# EAGLE library part GEN_10 (library bschulz)
Generic 10 Pin Package for Breakout Boards
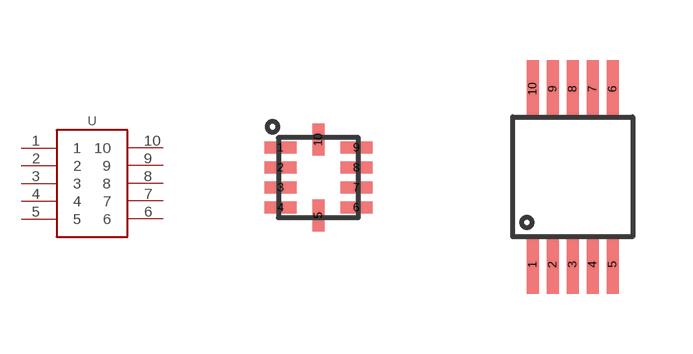
[diagram p150: symbol with the pads of QFN10_SI114X; footprints QFN10_SI114X, VSSOP_10]

Designator prefix U

## GEN_10QFN10_2X2  [QFN10_SI114X]
1  1
2  2
3  3
4  4
5  5
6  6
7  7
8  8
9  9
10  10

## GEN_10VSSOP10  [VSSOP_10]
Pads as for QFN10_SI114X

## GEN_10SOIC10  [SO10]
Pads as for QFN10_SI114X

## GEN_10MICROPACK  [MICROPAK_10]
Pads as for QFN10_SI114X

## Footprint QFN10_SI114X (pad centres in mm)
QFN, 10 Pos, for Si114x light sensor Datasheet <https://www.silabs.com/documents/public/data-sheets/Si114x.pdf>
smd 0.8 x 0.3: 1 -0.95,0.75; 2 -0.95,0.25; 3 -0.95,-0.25; 4 -0.95,-0.75; 6 0.95,-0.75; 7 0.95,-0.25; 8 0.95,0.25; 9 0.95,0.75
smd 0.3 x 0.8: 5 0,-0.95; 10 0,0.95

## Footprint VSSOP_10 (pad centres in mm)
smd 0.3 x 1.45: 1 -1,-2.2; 2 -0.5,-2.2; 3 0,-2.2; 4 0.5,-2.2; 5 1,-2.2; 6 1,2.2; 7 0.5,2.2; 8 0,2.2; 9 -0.5,2.2; 10 -1,2.2

## Footprint SO10 (pad centres in mm)
SOIC, 0.15 inch width
smd 0.6 x 1.2: 1 -2.54,-2.8; 2 -1.27,-2.8; 3 0,-2.8; 4 1.27,-2.8; 5 2.54,-2.8; 6 2.54,2.8; 7 1.27,2.8; 8 0,2.8; 9 -1.27,2.8; 10 -2.54,2.8

## Footprint MICROPAK_10 (pad centres in mm)
MicroPak, 10 pos, 0.5mm pitch, 1.6x2.1mm body Datasheet <https://www.onsemi.com/pdf/datasheet/fsa2258-d.pdf>
smd 0.25 x 0.35: 1 -0.75,-0.56; 2 -0.25,-0.56; 3 0.25,-0.56; 4 0.75,-0.56; 6 0.75,0.56; 7 0.25,0.56; 8 -0.25,0.56; 9 -0.75,0.56
smd 0.35 x 0.25: 5 0.81,0; 10 -0.81,0